# EAGLE library part M25P16 (library Micron-U)
16Mbit low voltage SPI Flash
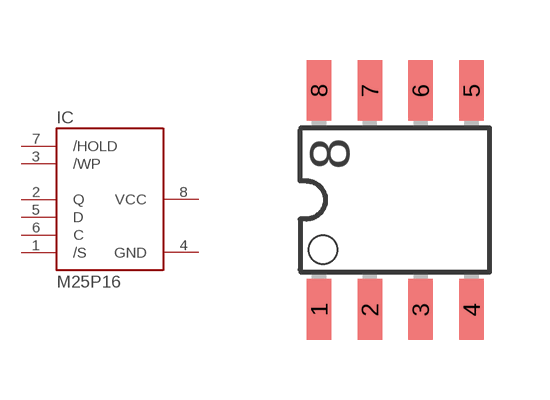
[diagram p0: symbol with the pads of SO-08; footprint SO-08]

Designator prefix IC

## M25P16-VMN6P  [SO-08]
1  /S  in
2  Q
3  /WP  in
4  GND  in
5  D  in
6  C  in
7  /HOLD  in
8  VCC  in

## Footprint SO-08 (pad centres in mm)
Standard SO 8
smd 0.61 x 1.524: 1 -1.905,-2.743; 2 -0.635,-2.743; 3 0.635,-2.743; 4 1.905,-2.743; 5 1.905,2.743; 6 0.635,2.743; 7 -0.635,2.743; 8 -1.905,2.743